# EAGLE library part SD-CARD (library pmon_log)
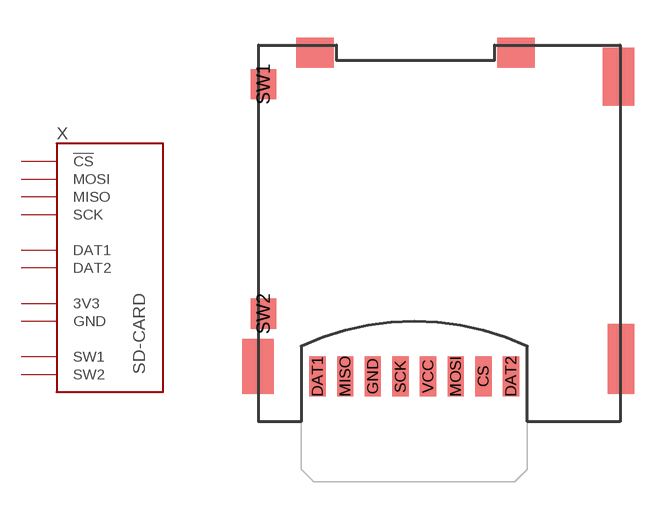
[diagram p5: symbol with the pads of SD_5031821853; footprint SD_5031821853]

Designator prefix X

## SD-CARD-MSD50 (DIGIKEY: WM9750TR-ND)  [SD_5031821853]
CS  !CS
DAT1  DAT1
DAT2  DAT2
GND  GND
MISO  MISO
MOSI  MOSI
SCK  SCK
SW1  SW1
SW2  SW2
VCC  3V3

## Footprint SD_5031821853 (pad centres in mm)
Molex 5031821853
smd 0.65 x 1.6: CS 2.75,0.8; DAT1 -3.85,0.8; DAT2 3.85,0.8; GND -1.65,0.8; MISO -2.75,0.8; MOSI 1.65,0.8; SCK -0.55,0.8; VCC 0.55,0.8
smd 1 x 1.2: SW1 -6,12.45; SW2 -6,3.3